# EAGLE library part DF3-09S (library con-hirose)
Single row female connector 2mm 9 way
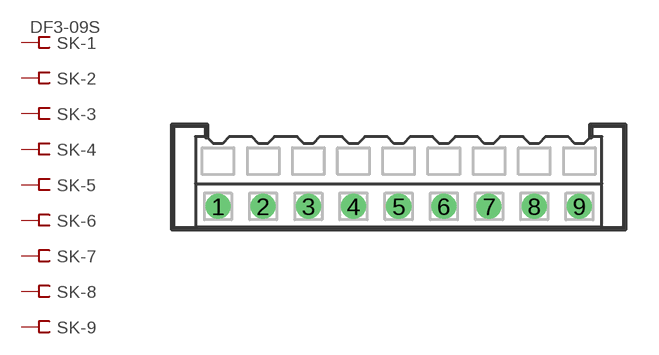
[diagram p6: symbol with the pads of DF3S-09; footprint DF3S-09]

Designator prefix SK; gates -1=FV -2=F -3=F -4=F -5=F -6=F -7=F -8=F -9=F

## DF3-09S  [DF3S-09]
1  -1:S  pas
2  -2:S  pas
3  -3:S  pas
4  -4:S  pas
5  -5:S  pas
6  -6:S  pas
7  -7:S  pas
8  -8:S  pas
9  -9:S  pas

## Footprint DF3S-09 (pad centres in mm)
Single row connector 2mm 9 way
drill 0.6 round: 1 -8,-1; 2 -6,-1; 3 -4,-1; 4 -2,-1; 5 0,-1; 6 2,-1; 7 4,-1; 8 6,-1; 9 8,-1